# EAGLE library part RN4020 (library tactile-music)
Microchip's RN4020 Bluetooth Module
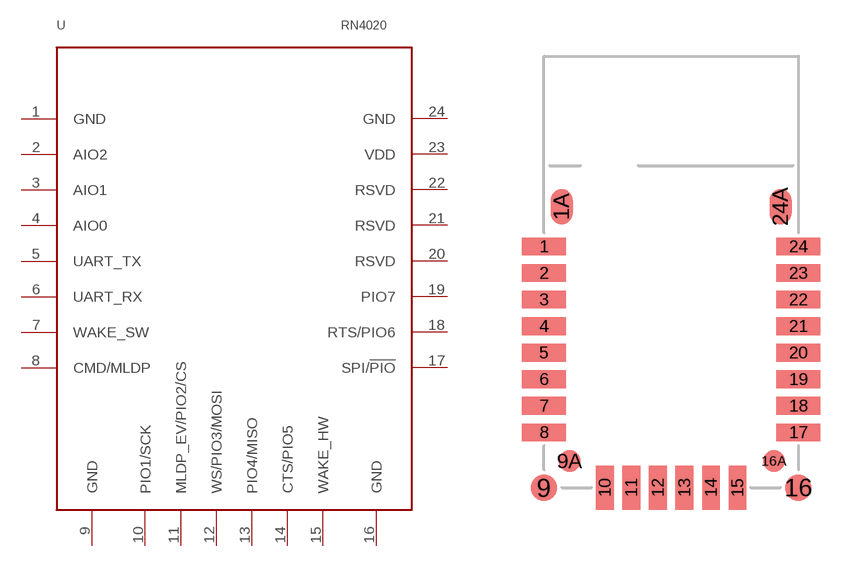
[diagram p0: symbol with the pads of RN4020; footprint RN4020]

Designator prefix -

## RN4020  [RN4020]
1  GND  pwr
2  AIO2
3  AIO1
4  AIO0
5  UART_TX  out
6  UART_RX  in
7  WAKE_SW  in
8  CMD/MLDP  in
9  GND  pwr
10  PIO1/SCK
11  MLDP_EV/PIO2/CS
12  WS/PIO3/MOSI
13  PIO4/MISO
14  CTS/PIO5
15  WAKE_HW
16  GND  pwr
17  SPI/!PIO
18  RTS/PIO6
19  PIO7
20  RSVD  nc
21  RSVD  nc
22  RSVD  nc
23  VDD  pwr
24  GND  pwr

## Footprint RN4020 (pad centres in mm)
Microchip's RN4020 Bluetooth Module
smd 2 x 0.8: 1 -5.75,1.15; 2 -5.75,-0.05; 3 -5.75,-1.25; 4 -5.75,-2.45; 5 -5.75,-3.65; 6 -5.75,-4.85; 7 -5.75,-6.05; 8 -5.75,-7.25; 17 5.75,-7.25; 18 5.75,-6.05; 19 5.75,-4.85; 20 5.75,-3.65; 21 5.75,-2.45; 22 5.75,-1.25; 23 5.75,-0.05; 24 5.75,1.15
smd 1 x 1.6: 1A -4.95,2.95; 24A 4.95,2.95
smd 1.2 x 1.2: 9 -5.75,-9.75; 16 5.75,-9.75
smd 1 x 1: 9A -4.6,-8.55; 16A 4.65,-8.55
smd 0.8 x 2: 10 -3,-9.75; 11 -1.8,-9.75; 12 -0.6,-9.75; 13 0.6,-9.75; 14 1.8,-9.75; 15 3,-9.75